# Altium schematic symbol library IOLib.SchLib: 11 symbols
Pins are listed as number, name and electrical type; pins without a type are passive.

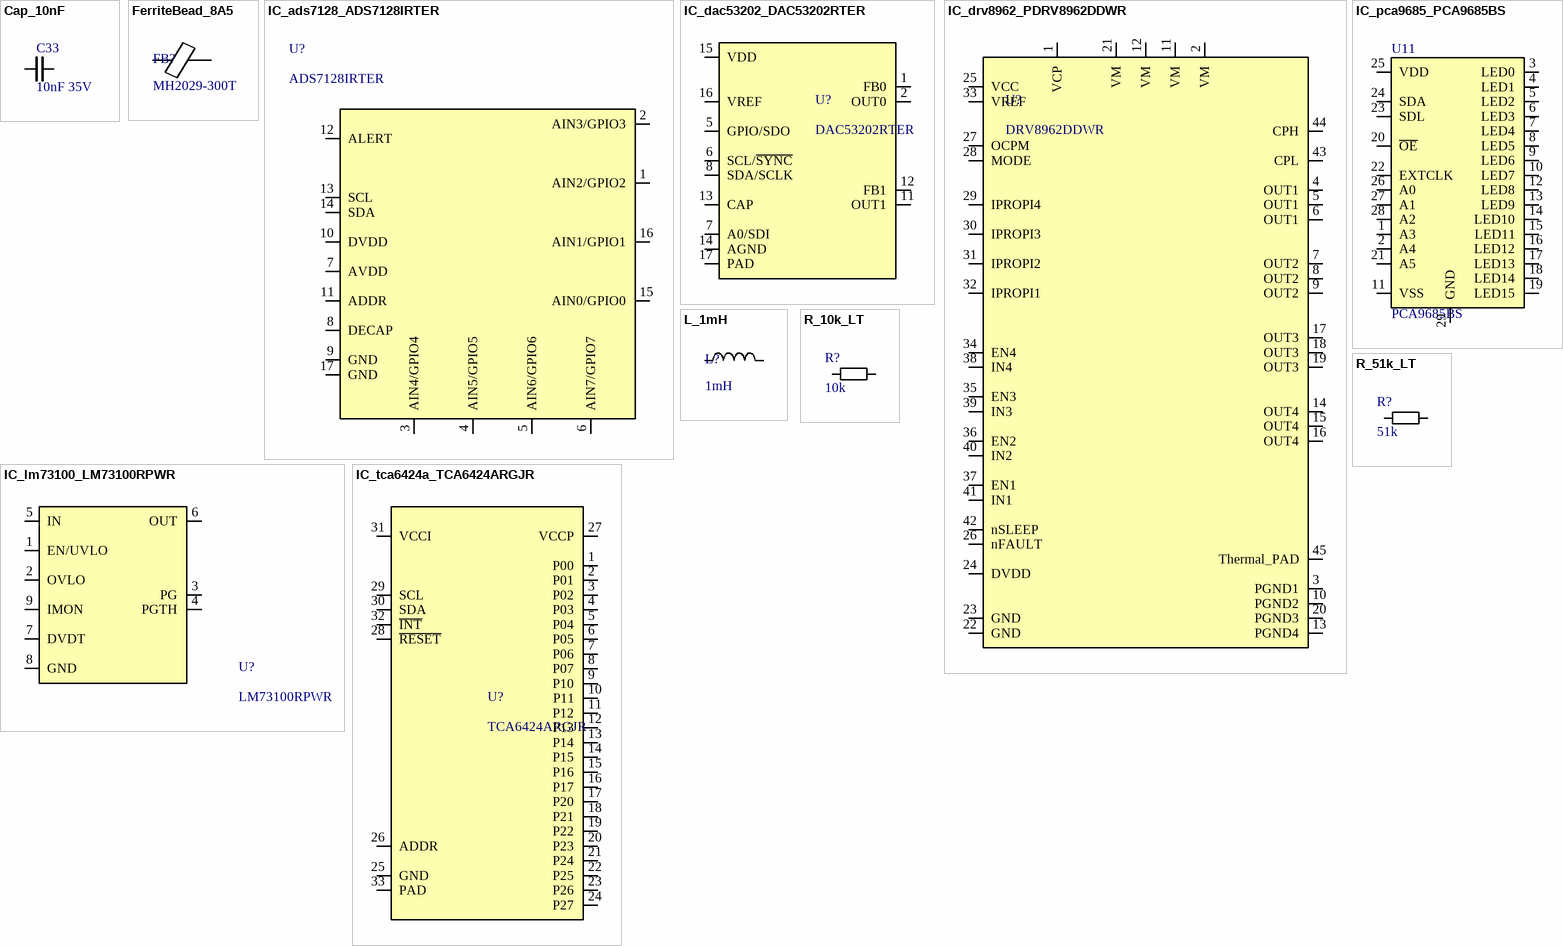
[diagram p0: symbols Cap_10nF to R_51k_LT]

## Cap_10nF
designator C33, comment 10nF 35V
Ceramic capacitor; Casing: 0603; Tolerance: 5%; Dielectric: X7R; Value: 10nF; Voltage: 35V
footprint 0603_CAP
pins: 1, 2

## FerriteBead_8A5
designator FB?, comment MH2029-300T
Ferrite bead; Manufacturer: Bourns Inc.
footprint MH2029-300T (Ferrite Bead MH2029-300T)
pins: 1, 2

## IC_ads7128_ADS7128IRTER
designator U?, comment ADS7128IRTER
Small 8-ch 12-bit analog-to-digital converter (ADC) with I2C interface, GPIOs, CRC and RMS module 16-WQFN -40 to 85; Manufacturer: Texas Instruments; Manufacturer_Part_Number: ADS7128IRTER; Datasheet: https://www.ti.com/lit/gpn/ads7128
footprint WQFN16_RTE_TEX
footprint ADS7128_RTE0016C
pins: 1 AIN2/GPIO2, 2 AIN3/GPIO3, 3 AIN4/GPIO4, 4 AIN5/GPIO5, 5 AIN6/GPIO6, 6 AIN7/GPIO7, 7 AVDD, 8 DECAP, 9 GND, 10 DVDD, 11 ADDR, 12 ALERT, 13 SCL, 14 SDA, 15 AIN0/GPIO0, 16 AIN1/GPIO1, 17 GND

## IC_dac53202_DAC53202RTER
designator U?, comment DAC53202RTER
Manufacturer: Texas Instruments
footprint DAC53202_RTE0016C
pins: 1 FB0, 2 OUT0, 3 NC hidden, 4 NC hidden, 5 GPIO/SDO, 6 SCL/~{SYNC}, 7 A0/SDI, 8 SDA/SCLK, 9 NC hidden, 10 NC hidden, 11 OUT1, 12 FB1, 13 CAP, 14 AGND, 15 VDD, 16 VREF, 17 PAD

## IC_drv8962_PDRV8962DDWR
designator U?, comment DRV8962DDWR
65-V four-channel half-bridge driver with current sense outputs 44-HTSSOP; Manufacturer: Texas Instruments; Manufacturer_Part_Number: DRV8962DDWR
footprint DDW0044E-MFG
pins: 1 VCP, 2 VM, 3 PGND1, 4 OUT1, 5 OUT1, 6 OUT1, 7 OUT2, 8 OUT2, 9 OUT2, 10 PGND2, 11 VM, 12 VM, 13 PGND4, 14 OUT4, 15 OUT4, 16 OUT4, 17 OUT3, 18 OUT3, 19 OUT3, 20 PGND3, 21 VM, 22 GND, 23 GND, 24 DVDD, 25 VCC, 26 nFAULT, 27 OCPM, 28 MODE, 29 IPROPI4, 30 IPROPI3, 31 IPROPI2, 32 IPROPI1, 33 VREF, 34 EN4, 35 EN3, 36 EN2, 37 EN1, 38 IN4, 39 IN3, 40 IN2, 41 IN1, 42 nSLEEP, 43 CPL, 44 CPH, 45 Thermal_PAD

## IC_lm73100_LM73100RPWR
designator U?, comment LM73100RPWR
Ideal diode ORing controller 5.5A 23V; Manufacturer: Texas Instruments
footprint LM73100_RPW0010A
pins: 1 EN/UVLO, 2 OVLO, 3 PG, 4 PGTH, 5 IN, 6 OUT, 7 DVDT, 8 GND, 9 IMON, 10 DNC hidden

## IC_pca9685_PCA9685BS
designator U11, comment PCA9685BS
PCA9685BS, PWM expadnder 16 channels; Manufacturer: NXP Semiconductors
footprint PCA9685_SOT788-1
pins: 1 A3, 2 A4, 3 LED0, 4 LED1, 5 LED2, 6 LED3, 7 LED4, 8 LED5, 9 LED6, 10 LED7, 11 VSS, 12 LED8, 13 LED9, 14 LED10, 15 LED11, 16 LED12, 17 LED13, 18 LED14, 19 LED15, 20 ~{OE}, 21 A5, 22 EXTCLK, 23 SDL, 24 SDA, 25 VDD, 26 A0, 27 A1, 28 A2, 29 GND

## IC_tca6424a_TCA6424ARGJR
designator U?, comment TCA6424ARGJR
24-bit translating 1.65- to 5.5-V I2C/SMBus I/O expander with interrupt, reset & config registers 32-UQFN -40 to 85; Manufacturer: Texas Instruments; Manufacturer_Part_Number: TCA6424ARGJR; PartNumber: TCA6424ARGJR; PackageReference: RGJ0032A
footprint RGJ0032A
footprint TCA6424A_RGJ0032A
pins: 1 P00, 2 P01, 3 P02, 4 P03, 5 P04, 6 P05, 7 P06, 8 P07, 9 P10, 10 P11, 11 P12, 12 P13, 13 P14, 14 P15, 15 P16, 16 P17, 17 P20, 18 P21, 19 P22, 20 P23, 21 P24, 22 P25, 23 P26, 24 P27, 25 GND, 26 ADDR, 27 VCCP, 28 ~{RESET}, 29 SCL, 30 SDA, 31 VCCI, 32 ~{INT}, 33 PAD

## L_1mH
designator L?, comment 1mH
Inductor; Casing: 1007; Tolerance: 20%; Idc: 15mA; Value: 1mH
footprint L_1007 (Indcutor measurements from TAIYO YUDEN LSQ INDUCTOR)
pins: 1, 2

## R_10k_LT
designator R?, comment 10k
Tolerance: 0.1%; Power: 125mW; Casing: 0603; Value: 10k
footprint R_0603
pins: 1, 2
1 alternate drawing of the same symbol

## R_51k_LT
designator R?, comment 51k
Tolerance: 0.1%; Power: 100mW; Casing: 0603; Value: 51k
footprint R_0603
pins: 1, 2
1 alternate drawing of the same symbol